# Altium schematic symbol library User_Library.SchLib: 5 symbols
Pins are listed as number, name and electrical type; pins without a type are passive.

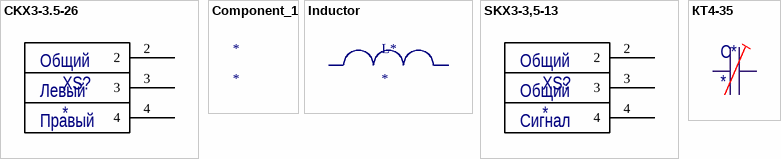
[diagram p0: symbols CKX3-3.5-26 to КТ4-35]

## CKX3-3.5-26
designator XS?
footprint CKX3-3.5-26
pins: 2, 3, 4
text: Общий; Левый; Правый

## Component_1
designator *

## Inductor
designator L*
footprint Inductor
pins: 1, 2

## SKX3-3,5-13
designator XS?
footprint SKX3-3,5-13
pins: 2, 3, 4
text: Общий; Сигнал

## КТ4-35
designator C*
footprint KТ4-35
pins: 1, 2